# EAGLE library part SMARC_2.1 (library Public)
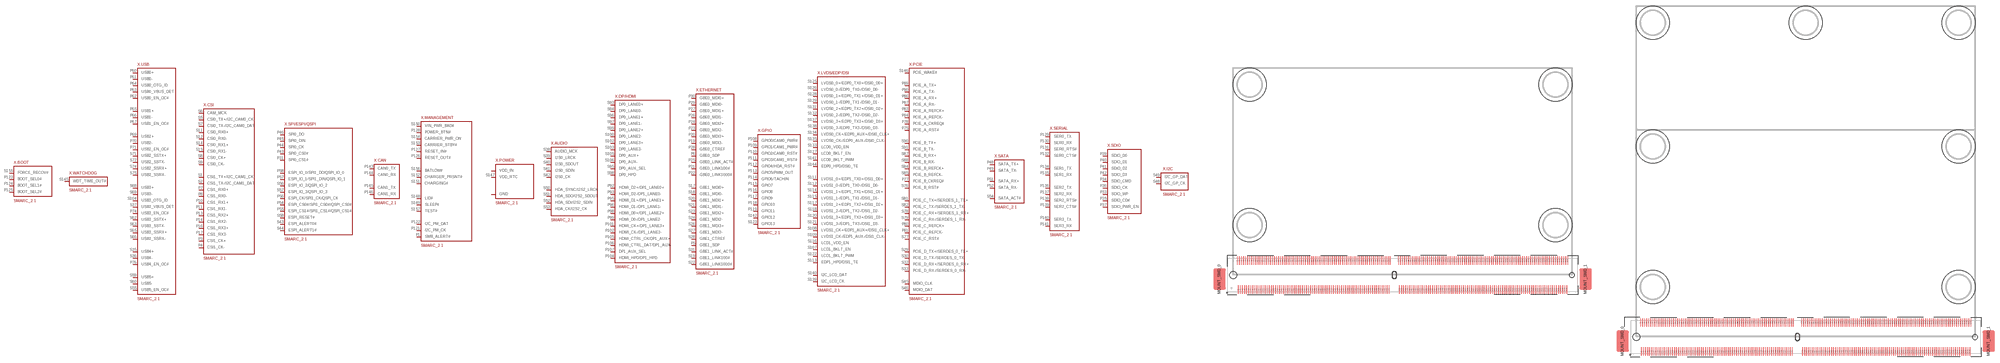
[diagram p110: symbol with the pads of SMARC_2.1_82X50; footprints SMARC_2.1_82X50, SMARC_2.1_82X80]

Designator prefix X; gates .POWER=SMARC_2.1_POWER .AUDIO=SMARC_2.1_AUDIO .BOOT=SMARC_2.1_BOOT .CAN=SMARC_2.1_CAN .CSI=SMARC_2.1_CSI .DP/HDMI=SMARC_2.1_DP_HDMI .ETHERNET=SMARC_2.1_ETHERNET .GPIO=SMARC_2.1_GPIO .I2C=SMARC_2.1_I2C .LVDS/EDP/DSI=SMARC_2.1_LVDS_EDP_DSI .MANAGEMENT=SMARC_2.1_MANAGEMENT .PCIE=SMARC_2.1_PCIE_SERDES .SATA=SMARC_2.1_SATA .SDIO=SMARC_2.1_SDIO .SERIAL=SMARC_2.1_SERIAL .SPI/ESPI/QSPI=SMARC_2.1_SPI_ESPI_QSPI .USB=SMARC_2.1_USB .WATCHDOG=SMARC_2.1_WATCHDOG

## SMARC_2.1(82X50)  [SMARC_2.1_82X50]
P1  .MANAGEMENT:SMB_ALERT#
P2  .POWER:GND
P3  .CSI:CSI1_CK+
P4  .CSI:CSI1_CK-
P5  .ETHERNET:GBE1_SDP
P6  .ETHERNET:GBE0_SDP
P7  .CSI:CSI1_RX0+
P8  .CSI:CSI1_RX0-
P9  .POWER:GND
P10  .CSI:CSI1_RX1+
P11  .CSI:CSI1_RX1-
P12  .POWER:GND
P13  .CSI:CSI1_RX2+
P14  .CSI:CSI1_RX2-
P15  .POWER:GND
P16  .CSI:CSI1_RX3+
P17  .CSI:CSI1_RX3-
P18  .POWER:GND
P19  .ETHERNET:GBE0_MDI3-
P20  .ETHERNET:GBE0_MDI3+
P21  .ETHERNET:GBE0_LINK100#
P22  .ETHERNET:GBE0_LINK1000#
P23  .ETHERNET:GBE0_MDI2-
P24  .ETHERNET:GBE0_MDI2+
P25  .ETHERNET:GBE0_LINK_ACT#
P26  .ETHERNET:GBE0_MDI1-
P27  .ETHERNET:GBE0_MDI1+
P28  .ETHERNET:GBE0_CTREF
P29  .ETHERNET:GBE0_MDI0-
P30  .ETHERNET:GBE0_MDI0+
P31  .SPI/ESPI/QSPI:SPI0_CS1#
P32  .POWER:GND
P33  .SDIO:SDIO_WP
P34  .SDIO:SDIO_CMD
P35  .SDIO:SDIO_CD#
P36  .SDIO:SDIO_CK
P37  .SDIO:SDIO_PWR_EN
P38  .POWER:GND
P39  .SDIO:SDIO_D0
P40  .SDIO:SDIO_D1
P41  .SDIO:SDIO_D2
P42  .SDIO:SDIO_D3
P43  .SPI/ESPI/QSPI:SPI0_CS0#
P44  .SPI/ESPI/QSPI:SPI0_CK
P45  .SPI/ESPI/QSPI:SPI0_DIN
P46  .SPI/ESPI/QSPI:SPI0_DO
P47  .POWER:GND
P48  .SATA:SATA_TX+
P49  .SATA:SATA_TX-
P50  .POWER:GND
P51  .SATA:SATA_RX+
P52  .SATA:SATA_RX-
P53  .POWER:GND
P54  .SPI/ESPI/QSPI:ESPI_CS0#/SPI1_CS0#/QSPI_CS0#
P55  .SPI/ESPI/QSPI:ESPI_CS1#/SPI1_CS1#/QSPI_CS1#
P56  .SPI/ESPI/QSPI:ESPI_CK/SPI1_CK/QSPI_CK
P57  .SPI/ESPI/QSPI:ESPI_IO_1/SPI1_DIN/QSPI_IO_1
P58  .SPI/ESPI/QSPI:ESPI_IO_0/SPI1_DO/QSPI_IO_0
P59  .POWER:GND
P60  .USB:USB0+
P61  .USB:USB0-
P62  .USB:USB0_EN_OC#
P63  .USB:USB0_VBUS_DET
P64  .USB:USB0_OTG_ID
P65  .USB:USB1+
P66  .USB:USB1-
P67  .USB:USB1_EN_OC#
P68  .POWER:GND
P69  .USB:USB2+
P70  .USB:USB2-
P71  .USB:USB2_EN_OC#
P74  .USB:USB3_EN_OC#
P75  .PCIE:PCIE_A_RST#
P76  .USB:USB4_EN_OC#
P77  .PCIE:PCIE_B_CKREQ#
P78  .PCIE:PCIE_A_CKREQ#
P79  .POWER:GND
P80  .PCIE:PCIE_C_REFCK+
P81  .PCIE:PCIE_C_REFCK-
P82  .POWER:GND
P83  .PCIE:PCIE_A_REFCK+
P84  .PCIE:PCIE_A_REFCK-
P85  .POWER:GND
P86  .PCIE:PCIE_A_RX+
P87  .PCIE:PCIE_A_RX-
P88  .POWER:GND
P89  .PCIE:PCIE_A_TX+
P90  .PCIE:PCIE_A_TX-
P91  .POWER:GND
P92  .DP/HDMI:HDMI_D2+/DP1_LANE0+
P93  .DP/HDMI:HDMI_D2-/DP1_LANE0-
P94  .POWER:GND
P95  .DP/HDMI:HDMI_D1+/DP1_LANE1+
P96  .DP/HDMI:HDMI_D1-/DP1_LANE1-
P97  .POWER:GND
P98  .DP/HDMI:HDMI_D0+/DP1_LANE2+
P99  .DP/HDMI:HDMI_D0-/DP1_LANE2-
P100  .POWER:GND
P101  .DP/HDMI:HDMI_CK+/DP1_LANE3+
P102  .DP/HDMI:HDMI_CK-/DP1_LANE3-
P103  .POWER:GND
P104  .DP/HDMI:HDMI_HPD/DP1_HPD
P105  .DP/HDMI:HDMI_CTRL_CK/DP1_AUX+
P106  .DP/HDMI:HDMI_CTRL_DAT/DP1_AUX-
P107  .DP/HDMI:DP1_AUX_SEL
P108  .GPIO:GPIO0/CAM0_PWR#
P109  .GPIO:GPIO1/CAM1_PWR#
P110  .GPIO:GPIO2/CAM0_RST#
P111  .GPIO:GPIO3/CAM1_RST#
P112  .GPIO:GPIO4/HDA_RST#
P113  .GPIO:GPIO5/PWM_OUT
P114  .GPIO:GPIO6/TACHIN
P115  .GPIO:GPIO7
P116  .GPIO:GPIO8
P117  .GPIO:GPIO9
P118  .GPIO:GPIO10
P119  .GPIO:GPIO11
P120  .POWER:GND
P121  .MANAGEMENT:I2C_PM_CK
P122  .MANAGEMENT:I2C_PM_DAT
P123  .BOOT:BOOT_SEL0#
P124  .BOOT:BOOT_SEL1#
P125  .BOOT:BOOT_SEL2#
P126  .MANAGEMENT:RESET_OUT#
P127  .MANAGEMENT:RESET_IN#
P128  .MANAGEMENT:POWER_BTN#
P129  .SERIAL:SER0_TX
P130  .SERIAL:SER0_RX
P131  .SERIAL:SER0_RTS#
P132  .SERIAL:SER0_CTS#
P133  .POWER:GND
P134  .SERIAL:SER1_TX
P135  .SERIAL:SER1_RX
P136  .SERIAL:SER2_TX
P137  .SERIAL:SER2_RX
P138  .SERIAL:SER2_RTS#
P139  .SERIAL:SER2_CTS#
P140  .SERIAL:SER3_TX
P141  .SERIAL:SER3_RX
P142  .POWER:GND
P143  .CAN:CAN0_TX
P144  .CAN:CAN0_RX
P145  .CAN:CAN1_TX
P146  .CAN:CAN1_RX
P147  .POWER:VDD_IN
P148  .POWER:VDD_IN
P149  .POWER:VDD_IN
P150  .POWER:VDD_IN
P151  .POWER:VDD_IN
P152  .POWER:VDD_IN
P153  .POWER:VDD_IN
P154  .POWER:VDD_IN
P155  .POWER:VDD_IN
P156  .POWER:VDD_IN
S1  .CSI:CSI1_TX+/I2C_CAM1_CK
S2  .CSI:CSI1_TX-/I2C_CAM1_DAT
S3  .POWER:GND
S5  .CSI:CSI0_TX+/I2C_CAM0_CK
S6  .CSI:CAM_MCK
S7  .CSI:CSI0_TX-/I2C_CAM0_DAT
S8  .CSI:CSI0_CK+
S9  .CSI:CSI0_CK-
S10  .POWER:GND
S11  .CSI:CSI0_RX0+
S12  .CSI:CSI0_RX0-
S13  .POWER:GND
S14  .CSI:CSI0_RX1+
S15  .CSI:CSI0_RX1-
S16  .POWER:GND
S17  .ETHERNET:GBE1_MDI0+
S18  .ETHERNET:GBE1_MDI0-
S19  .ETHERNET:GBE1_LINK100#
S20  .ETHERNET:GBE1_MDI1+
S21  .ETHERNET:GBE1_MDI1-
S22  .ETHERNET:GBE1_LINK1000#
S23  .ETHERNET:GBE1_MDI2+
S24  .ETHERNET:GBE1_MDI2-
S25  .POWER:GND
S26  .ETHERNET:GBE1_MDI3+
S27  .ETHERNET:GBE1_MDI3-
S28  .ETHERNET:GBE1_CTREF
S29  .PCIE:PCIE_D_TX+/SERDES_0_TX+
S30  .PCIE:PCIE_D_TX-/SERDES_0_TX-
S31  .ETHERNET:GBE1_LINK_ACT#
S32  .PCIE:PCIE_D_RX+/SERDES_0_RX+
S33  .PCIE:PCIE_D_RX-/SERDES_0_RX-
S34  .POWER:GND
S35  .USB:USB4+
S36  .USB:USB4-
S37  .USB:USB3_VBUS_DET
S38  .AUDIO:AUDIO_MCK
S39  .AUDIO:I2S0_LRCK
S40  .AUDIO:I2S0_SDOUT
S41  .AUDIO:I2S0_SDIN
S42  .AUDIO:I2S0_CK
S43  .SPI/ESPI/QSPI:ESPI_ALERT0#
S44  .SPI/ESPI/QSPI:ESPI_ALERT1#
S45  .PCIE:MDIO_CLK
S46  .PCIE:MDIO_DAT
S47  .POWER:GND
S48  .I2C:I2C_GP_CK
S49  .I2C:I2C_GP_DAT
S50  .AUDIO:HDA_SYNC/I2S2_LRCK
S51  .AUDIO:HDA_SDO/I2S2_SDOUT
S52  .AUDIO:HDA_SDI/I2S2_SDIN
S53  .AUDIO:HDA_CK/I2S2_CK
S54  .SATA:SATA_ACT#
S55  .USB:USB5_EN_OC#
S56  .SPI/ESPI/QSPI:ESPI_IO_2/QSPI_IO_2
S57  .SPI/ESPI/QSPI:ESPI_IO_3/QSPI_IO_3
S58  .SPI/ESPI/QSPI:ESPI_RESET#
S59  .USB:USB5+
S60  .USB:USB5-
S61  .POWER:GND
S62  .USB:USB3_SSTX+
S63  .USB:USB3_SSTX-
S64  .POWER:GND
S65  .USB:USB3_SSRX+
S66  .USB:USB3_SSRX-
S67  .POWER:GND
S68  .USB:USB3+
S69  .USB:USB3-
S70  .POWER:GND
S71  .USB:USB2_SSTX+
S72  .USB:USB2_SSTX-
S73  .POWER:GND
S74  .USB:USB2_SSRX+
S75  .USB:USB2_SSRX-
S76  .PCIE:PCIE_B_RST#
S77  .PCIE:PCIE_C_RST#
S78  .PCIE:PCIE_C_RX+/SERDES_1_RX+
S79  .PCIE:PCIE_C_RX-/SERDES_1_RX-
S80  .POWER:GND
S81  .PCIE:PCIE_C_TX+/SERDES_1_TX+
S82  .PCIE:PCIE_C_TX-/SERDES_1_TX-
S83  .POWER:GND
S84  .PCIE:PCIE_B_REFCK+
S85  .PCIE:PCIE_B_REFCK-
S86  .POWER:GND
S87  .PCIE:PCIE_B_RX+
S88  .PCIE:PCIE_B_RX-
S89  .POWER:GND
S90  .PCIE:PCIE_B_TX+
S91  .PCIE:PCIE_B_TX-
S92  .POWER:GND
S93  .DP/HDMI:DP0_LANE0+
S94  .DP/HDMI:DP0_LANE0-
S95  .DP/HDMI:DP0_AUX_SEL
S96  .DP/HDMI:DP0_LANE1+
S97  .DP/HDMI:DP0_LANE1-
S98  .DP/HDMI:DP0_HPD
S99  .DP/HDMI:DP0_LANE2+
S100  .DP/HDMI:DP0_LANE2-
S101  .POWER:GND
S102  .DP/HDMI:DP0_LANE3+
S103  .DP/HDMI:DP0_LANE3-
S104  .USB:USB3_OTG_ID
S105  .DP/HDMI:DP0_AUX+
S106  .DP/HDMI:DP0_AUX-
S107  .LVDS/EDP/DSI:LCD1_BKLT_EN
S108  .LVDS/EDP/DSI:LVDS1_CK+/EDP1_AUX+/DSI1_CLK+
S109  .LVDS/EDP/DSI:LVDS1_CK-/EDP1_AUX-/DSI1_CLK-
S110  .POWER:GND
S111  .LVDS/EDP/DSI:LVDS1_0+/EDP1_TX0+/DSI1_D0+
S112  .LVDS/EDP/DSI:LVDS1_0-/EDP1_TX0-/DSI1_D0-
S113  .LVDS/EDP/DSI:EDP1_HPD/DSI1_TE
S114  .LVDS/EDP/DSI:LVDS1_1+/EDP1_TX1+/DSI1_D1+
S115  .LVDS/EDP/DSI:LVDS1_1-/EDP1_TX1-/DSI1_D1-
S116  .LVDS/EDP/DSI:LCD1_VDD_EN
S117  .LVDS/EDP/DSI:LVDS1_2+/EDP1_TX2+/DSI1_D2+
S118  .LVDS/EDP/DSI:LVDS1_2-/EDP1_TX2-/DSI1_D2-
S119  .POWER:GND
S120  .LVDS/EDP/DSI:LVDS1_3+/EDP1_TX3+/DSI1_D3+
S121  .LVDS/EDP/DSI:LVDS1_3-/EDP1_TX3-/DSI1_D3-
S122  .LVDS/EDP/DSI:LCD1_BKLT_PWM
S123  .GPIO:GPIO13
S124  .POWER:GND
S125  .LVDS/EDP/DSI:LVDS0_0+/EDP0_TX0+/DSI0_D0+
S126  .LVDS/EDP/DSI:LVDS0_0-/EDP0_TX0-/DSI0_D0-
S127  .LVDS/EDP/DSI:LCD0_BKLT_EN
S128  .LVDS/EDP/DSI:LVDS0_1+/EDP0_TX1+/DSI0_D1+
S129  .LVDS/EDP/DSI:LVDS0_1-/EDP0_TX1-/DSI0_D1-
S130  .POWER:GND
S131  .LVDS/EDP/DSI:LVDS0_2+/EDP0_TX2+/DSI0_D2+
S132  .LVDS/EDP/DSI:LVDS0_2-/EDP0_TX2-/DSI0_D2-
S133  .LVDS/EDP/DSI:LCD0_VDD_EN
S134  .LVDS/EDP/DSI:LVDS0_CK+/EDP0_AUX+/DSI0_CLK+
S135  .LVDS/EDP/DSI:LVDS0_CK-/EDP0_AUX-/DSI0_CLK-
S136  .POWER:GND
S137  .LVDS/EDP/DSI:LVDS0_3+/EDP0_TX3+/DSI0_D3+
S138  .LVDS/EDP/DSI:LVDS0_3-/EDP0_TX3-/DSI0_D3-
S139  .LVDS/EDP/DSI:I2C_LCD_CK
S140  .LVDS/EDP/DSI:I2C_LCD_DAT
S141  .LVDS/EDP/DSI:LCD0_BKLT_PWM
S142  .GPIO:GPIO12
S143  .POWER:GND
S144  .LVDS/EDP/DSI:EDP0_HPD/DSI0_TE
S145  .WATCHDOG:WDT_TIME_OUT#
S146  .PCIE:PCIE_WAKE#
S147  .POWER:VDD_RTC
S148  .MANAGEMENT:LID#
S149  .MANAGEMENT:SLEEP#
S150  .MANAGEMENT:VIN_PWR_BAD#
S151  .MANAGEMENT:CHARGING#
S152  .MANAGEMENT:CHARGER_PRSNT#
S153  .MANAGEMENT:CARRIER_STBY#
S154  .MANAGEMENT:CARRIER_PWR_ON
S155  .BOOT:FORCE_RECOV#
S156  .MANAGEMENT:BATLOW#
S157  .MANAGEMENT:TEST#
S158  .POWER:GND

## SMARC_2.1(82X80)  [SMARC_2.1_82X80]

## Footprint SMARC_2.1_82X50 (pad centres in mm)
smd 3 x 5.15: MOUNT_SMD_0 -42.31,-0.98; MOUNT_SMD_1 46.31,-0.98
smd 0.3 x 2: P1 -37.75,-3.5; P2 -37.25,-3.5; P3 -36.75,-3.5; P4 -36.25,-3.5; P5 -35.75,-3.5; P6 -35.25,-3.5; P7 -34.75,-3.5; P8 -34.25,-3.5; P9 -33.75,-3.5; P10 -33.25,-3.5; P11 -32.75,-3.5; P12 -32.25,-3.5; P13 -31.75,-3.5; P14 -31.25,-3.5; P15 -30.75,-3.5; P16 -30.25,-3.5; P17 -29.75,-3.5; P18 -29.25,-3.5; P19 -28.75,-3.5; P20 -28.25,-3.5; P21 -27.75,-3.5; P22 -27.25,-3.5; P23 -26.75,-3.5; P24 -26.25,-3.5; P25 -25.75,-3.5; P26 -25.25,-3.5; P27 -24.75,-3.5; P28 -24.25,-3.5; P29 -23.75,-3.5; P30 -23.25,-3.5; P31 -22.75,-3.5; P32 -22.25,-3.5; P33 -21.75,-3.5; P34 -21.25,-3.5; P35 -20.75,-3.5; P36 -20.25,-3.5; P37 -19.75,-3.5; P38 -19.25,-3.5; P39 -18.75,-3.5; P40 -18.25,-3.5; P41 -17.75,-3.5; P42 -17.25,-3.5; P43 -16.75,-3.5; P44 -16.25,-3.5; P45 -15.75,-3.5; P46 -15.25,-3.5; P47 -14.75,-3.5; P48 -14.25,-3.5; P49 -13.75,-3.5; P50 -13.25,-3.5; P51 -12.75,-3.5; P52 -12.25,-3.5; P53 -11.75,-3.5; P54 -11.25,-3.5; P55 -10.75,-3.5; P56 -10.25,-3.5; P57 -9.75,-3.5; P58 -9.25,-3.5; P59 -8.75,-3.5; P60 -8.25,-3.5; P61 -7.75,-3.5; P62 -7.25,-3.5; P63 -6.75,-3.5; P64 -6.25,-3.5; P65 -5.75,-3.5; P66 -5.25,-3.5; P67 -4.75,-3.5; P68 -4.25,-3.5; P69 -3.75,-3.5; P70 -3.25,-3.5; P71 -2.75,-3.5; P72 -2.25,-3.5; P73 -1.75,-3.5; P74 -1.25,-3.5; P75 1.25,-3.5; P76 1.75,-3.5; P77 2.25,-3.5; P78 2.75,-3.5; P79 3.25,-3.5; P80 3.75,-3.5; P81 4.25,-3.5; P82 4.75,-3.5; P83 5.25,-3.5; P84 5.75,-3.5; P85 6.25,-3.5; P86 6.75,-3.5; P87 7.25,-3.5; P88 7.75,-3.5; P89 8.25,-3.5; P90 8.75,-3.5; P91 9.25,-3.5; P92 9.75,-3.5; P93 10.25,-3.5; P94 10.75,-3.5; P95 11.25,-3.5; P96 11.75,-3.5; P97 12.25,-3.5; P98 12.75,-3.5; P99 13.25,-3.5; P100 13.75,-3.5; P101 14.25,-3.5; P102 14.75,-3.5; P103 15.25,-3.5; P104 15.75,-3.5; P105 16.25,-3.5; P106 16.75,-3.5; P107 17.25,-3.5; P108 17.75,-3.5; P109 18.25,-3.5; P110 18.75,-3.5; P111 19.25,-3.5; P112 19.75,-3.5; P113 20.25,-3.5; P114 20.75,-3.5; P115 21.25,-3.5; P116 21.75,-3.5; P117 22.25,-3.5; P118 22.75,-3.5; P119 23.25,-3.5; P120 23.75,-3.5; P121 24.25,-3.5; P122 24.75,-3.5; P123 25.25,-3.5; P124 25.75,-3.5; P125 26.25,-3.5; P126 26.75,-3.5; P127 27.25,-3.5; P128 27.75,-3.5; P129 28.25,-3.5; P130 28.75,-3.5; P131 29.25,-3.5; P132 29.75,-3.5; P133 30.25,-3.5; P134 30.75,-3.5; P135 31.25,-3.5; P136 31.75,-3.5; P137 32.25,-3.5; P138 32.75,-3.5; P139 33.25,-3.5; P140 33.75,-3.5; P141 34.25,-3.5; P142 34.75,-3.5; P143 35.25,-3.5; P144 35.75,-3.5; P145 36.25,-3.5; P146 36.75,-3.5; P147 37.25,-3.5; P148 37.75,-3.5; P149 38.25,-3.5; P150 38.75,-3.5; P151 39.25,-3.5; P152 39.75,-3.5; P153 40.25,-3.5; P154 40.75,-3.5; P155 41.25,-3.5; P156 41.75,-3.5; S1 -38,3.5; S2 -37.5,3.5; S3 -37,3.5; S4 -36.5,3.5; S5 -36,3.5; S6 -35.5,3.5; S7 -35,3.5; S8 -34.5,3.5; S9 -34,3.5; S10 -33.5,3.5; S11 -33,3.5; S12 -32.5,3.5; S13 -32,3.5; S14 -31.5,3.5; S15 -31,3.5; S16 -30.5,3.5; S17 -30,3.5; S18 -29.5,3.5; S19 -29,3.5; S20 -28.5,3.5; S21 -28,3.5; S22 -27.5,3.5; S23 -27,3.5; S24 -26.5,3.5; S25 -26,3.5; S26 -25.5,3.5; S27 -25,3.5; S28 -24.5,3.5; S29 -24,3.5; S30 -23.5,3.5; S31 -23,3.5; S32 -22.5,3.5; S33 -22,3.5; S34 -21.5,3.5; S35 -21,3.5; S36 -20.5,3.5; S37 -20,3.5; S38 -19.5,3.5; S39 -19,3.5; S40 -18.5,3.5; S41 -18,3.5; S42 -17.5,3.5; S43 -17,3.5; S44 -16.5,3.5; S45 -16,3.5; S46 -15.5,3.5; S47 -15,3.5; S48 -14.5,3.5; S49 -14,3.5; S50 -13.5,3.5; S51 -13,3.5; S52 -12.5,3.5; S53 -12,3.5; S54 -11.5,3.5; S55 -11,3.5; S56 -10.5,3.5; S57 -10,3.5; S58 -9.5,3.5; S59 -9,3.5; S60 -8.5,3.5; S61 -8,3.5; S62 -7.5,3.5; S63 -7,3.5; S64 -6.5,3.5; S65 -6,3.5; S66 -5.5,3.5; S67 -5,3.5; S68 -4.5,3.5; S69 -4,3.5; S70 -3.5,3.5; S71 -3,3.5; S72 -2.5,3.5; S73 -2,3.5; S74 -1.5,3.5; S75 -1,3.5; S76 1,3.5; S77 1.5,3.5; S78 2,3.5; S79 2.5,3.5; S80 3,3.5; S81 3.5,3.5; S82 4,3.5; S83 4.5,3.5; S84 5,3.5; S85 5.5,3.5; S86 6,3.5; S87 6.5,3.5; S88 7,3.5; S89 7.5,3.5; S90 8,3.5; S91 8.5,3.5; S92 9,3.5; S93 9.5,3.5; S94 10,3.5; S95 10.5,3.5; S96 11,3.5; S97 11.5,3.5; S98 12,3.5; S99 12.5,3.5; S100 13,3.5; S101 13.5,3.5; S102 14,3.5; S103 14.5,3.5; S104 15,3.5; S105 15.5,3.5; S106 16,3.5; S107 16.5,3.5; S108 17,3.5; S109 17.5,3.5; S110 18,3.5; S111 18.5,3.5; S112 19,3.5; S113 19.5,3.5; S114 20,3.5; S115 20.5,3.5; S116 21,3.5; S117 21.5,3.5; S118 22,3.5; S119 22.5,3.5; S120 23,3.5; S121 23.5,3.5; S122 24,3.5; S123 24.5,3.5; S124 25,3.5; S125 25.5,3.5; S126 26,3.5; S127 26.5,3.5; S128 27,3.5; S129 27.5,3.5; S130 28,3.5; S131 28.5,3.5; S132 29,3.5; S133 29.5,3.5; S134 30,3.5; S135 30.5,3.5; S136 31,3.5; S137 31.5,3.5; S138 32,3.5; S139 32.5,3.5; S140 33,3.5; S141 33.5,3.5; S142 34,3.5; S143 34.5,3.5; S144 35,3.5; S145 35.5,3.5; S146 36,3.5; S147 36.5,3.5; S148 37,3.5; S149 37.5,3.5; S150 38,3.5; S151 38.5,3.5; S152 39,3.5; S153 39.5,3.5; S154 40,3.5; S155 40.5,3.5; S156 41,3.5; S157 41.5,3.5; S158 42,3.5
hole 1.7 at -39,0
hole 1.2 at 43,0

## Footprint SMARC_2.1_82X80 (pad centres in mm)
smd 3 x 5.15: MOUNT_SMD_0 -42.31,-0.98; MOUNT_SMD_1 46.31,-0.98
smd 0.3 x 2: P1 -37.75,-3.5; P2 -37.25,-3.5; P3 -36.75,-3.5; P4 -36.25,-3.5; P5 -35.75,-3.5; P6 -35.25,-3.5; P7 -34.75,-3.5; P8 -34.25,-3.5; P9 -33.75,-3.5; P10 -33.25,-3.5; P11 -32.75,-3.5; P12 -32.25,-3.5; P13 -31.75,-3.5; P14 -31.25,-3.5; P15 -30.75,-3.5; P16 -30.25,-3.5; P17 -29.75,-3.5; P18 -29.25,-3.5; P19 -28.75,-3.5; P20 -28.25,-3.5; P21 -27.75,-3.5; P22 -27.25,-3.5; P23 -26.75,-3.5; P24 -26.25,-3.5; P25 -25.75,-3.5; P26 -25.25,-3.5; P27 -24.75,-3.5; P28 -24.25,-3.5; P29 -23.75,-3.5; P30 -23.25,-3.5; P31 -22.75,-3.5; P32 -22.25,-3.5; P33 -21.75,-3.5; P34 -21.25,-3.5; P35 -20.75,-3.5; P36 -20.25,-3.5; P37 -19.75,-3.5; P38 -19.25,-3.5; P39 -18.75,-3.5; P40 -18.25,-3.5; P41 -17.75,-3.5; P42 -17.25,-3.5; P43 -16.75,-3.5; P44 -16.25,-3.5; P45 -15.75,-3.5; P46 -15.25,-3.5; P47 -14.75,-3.5; P48 -14.25,-3.5; P49 -13.75,-3.5; P50 -13.25,-3.5; P51 -12.75,-3.5; P52 -12.25,-3.5; P53 -11.75,-3.5; P54 -11.25,-3.5; P55 -10.75,-3.5; P56 -10.25,-3.5; P57 -9.75,-3.5; P58 -9.25,-3.5; P59 -8.75,-3.5; P60 -8.25,-3.5; P61 -7.75,-3.5; P62 -7.25,-3.5; P63 -6.75,-3.5; P64 -6.25,-3.5; P65 -5.75,-3.5; P66 -5.25,-3.5; P67 -4.75,-3.5; P68 -4.25,-3.5; P69 -3.75,-3.5; P70 -3.25,-3.5; P71 -2.75,-3.5; P72 -2.25,-3.5; P73 -1.75,-3.5; P74 -1.25,-3.5; P75 1.25,-3.5; P76 1.75,-3.5; P77 2.25,-3.5; P78 2.75,-3.5; P79 3.25,-3.5; P80 3.75,-3.5; P81 4.25,-3.5; P82 4.75,-3.5; P83 5.25,-3.5; P84 5.75,-3.5; P85 6.25,-3.5; P86 6.75,-3.5; P87 7.25,-3.5; P88 7.75,-3.5; P89 8.25,-3.5; P90 8.75,-3.5; P91 9.25,-3.5; P92 9.75,-3.5; P93 10.25,-3.5; P94 10.75,-3.5; P95 11.25,-3.5; P96 11.75,-3.5; P97 12.25,-3.5; P98 12.75,-3.5; P99 13.25,-3.5; P100 13.75,-3.5; P101 14.25,-3.5; P102 14.75,-3.5; P103 15.25,-3.5; P104 15.75,-3.5; P105 16.25,-3.5; P106 16.75,-3.5; P107 17.25,-3.5; P108 17.75,-3.5; P109 18.25,-3.5; P110 18.75,-3.5; P111 19.25,-3.5; P112 19.75,-3.5; P113 20.25,-3.5; P114 20.75,-3.5; P115 21.25,-3.5; P116 21.75,-3.5; P117 22.25,-3.5; P118 22.75,-3.5; P119 23.25,-3.5; P120 23.75,-3.5; P121 24.25,-3.5; P122 24.75,-3.5; P123 25.25,-3.5; P124 25.75,-3.5; P125 26.25,-3.5; P126 26.75,-3.5; P127 27.25,-3.5; P128 27.75,-3.5; P129 28.25,-3.5; P130 28.75,-3.5; P131 29.25,-3.5; P132 29.75,-3.5; P133 30.25,-3.5; P134 30.75,-3.5; P135 31.25,-3.5; P136 31.75,-3.5; P137 32.25,-3.5; P138 32.75,-3.5; P139 33.25,-3.5; P140 33.75,-3.5; P141 34.25,-3.5; P142 34.75,-3.5; P143 35.25,-3.5; P144 35.75,-3.5; P145 36.25,-3.5; P146 36.75,-3.5; P147 37.25,-3.5; P148 37.75,-3.5; P149 38.25,-3.5; P150 38.75,-3.5; P151 39.25,-3.5; P152 39.75,-3.5; P153 40.25,-3.5; P154 40.75,-3.5; P155 41.25,-3.5; P156 41.75,-3.5; S1 -38,3.5; S2 -37.5,3.5; S3 -37,3.5; S4 -36.5,3.5; S5 -36,3.5; S6 -35.5,3.5; S7 -35,3.5; S8 -34.5,3.5; S9 -34,3.5; S10 -33.5,3.5; S11 -33,3.5; S12 -32.5,3.5; S13 -32,3.5; S14 -31.5,3.5; S15 -31,3.5; S16 -30.5,3.5; S17 -30,3.5; S18 -29.5,3.5; S19 -29,3.5; S20 -28.5,3.5; S21 -28,3.5; S22 -27.5,3.5; S23 -27,3.5; S24 -26.5,3.5; S25 -26,3.5; S26 -25.5,3.5; S27 -25,3.5; S28 -24.5,3.5; S29 -24,3.5; S30 -23.5,3.5; S31 -23,3.5; S32 -22.5,3.5; S33 -22,3.5; S34 -21.5,3.5; S35 -21,3.5; S36 -20.5,3.5; S37 -20,3.5; S38 -19.5,3.5; S39 -19,3.5; S40 -18.5,3.5; S41 -18,3.5; S42 -17.5,3.5; S43 -17,3.5; S44 -16.5,3.5; S45 -16,3.5; S46 -15.5,3.5; S47 -15,3.5; S48 -14.5,3.5; S49 -14,3.5; S50 -13.5,3.5; S51 -13,3.5; S52 -12.5,3.5; S53 -12,3.5; S54 -11.5,3.5; S55 -11,3.5; S56 -10.5,3.5; S57 -10,3.5; S58 -9.5,3.5; S59 -9,3.5; S60 -8.5,3.5; S61 -8,3.5; S62 -7.5,3.5; S63 -7,3.5; S64 -6.5,3.5; S65 -6,3.5; S66 -5.5,3.5; S67 -5,3.5; S68 -4.5,3.5; S69 -4,3.5; S70 -3.5,3.5; S71 -3,3.5; S72 -2.5,3.5; S73 -2,3.5; S74 -1.5,3.5; S75 -1,3.5; S76 1,3.5; S77 1.5,3.5; S78 2,3.5; S79 2.5,3.5; S80 3,3.5; S81 3.5,3.5; S82 4,3.5; S83 4.5,3.5; S84 5,3.5; S85 5.5,3.5; S86 6,3.5; S87 6.5,3.5; S88 7,3.5; S89 7.5,3.5; S90 8,3.5; S91 8.5,3.5; S92 9,3.5; S93 9.5,3.5; S94 10,3.5; S95 10.5,3.5; S96 11,3.5; S97 11.5,3.5; S98 12,3.5; S99 12.5,3.5; S100 13,3.5; S101 13.5,3.5; S102 14,3.5; S103 14.5,3.5; S104 15,3.5; S105 15.5,3.5; S106 16,3.5; S107 16.5,3.5; S108 17,3.5; S109 17.5,3.5; S110 18,3.5; S111 18.5,3.5; S112 19,3.5; S113 19.5,3.5; S114 20,3.5; S115 20.5,3.5; S116 21,3.5; S117 21.5,3.5; S118 22,3.5; S119 22.5,3.5; S120 23,3.5; S121 23.5,3.5; S122 24,3.5; S123 24.5,3.5; S124 25,3.5; S125 25.5,3.5; S126 26,3.5; S127 26.5,3.5; S128 27,3.5; S129 27.5,3.5; S130 28,3.5; S131 28.5,3.5; S132 29,3.5; S133 29.5,3.5; S134 30,3.5; S135 30.5,3.5; S136 31,3.5; S137 31.5,3.5; S138 32,3.5; S139 32.5,3.5; S140 33,3.5; S141 33.5,3.5; S142 34,3.5; S143 34.5,3.5; S144 35,3.5; S145 35.5,3.5; S146 36,3.5; S147 36.5,3.5; S148 37,3.5; S149 37.5,3.5; S150 38,3.5; S151 38.5,3.5; S152 39,3.5; S153 39.5,3.5; S154 40,3.5; S155 40.5,3.5; S156 41,3.5; S157 41.5,3.5; S158 42,3.5
hole 1.7 at -39,0
hole 1.2 at 43,0